# EAGLE library part CONNECTOR-10--PINS-11-TO-20 (library eagle-library-engr-245-s22)
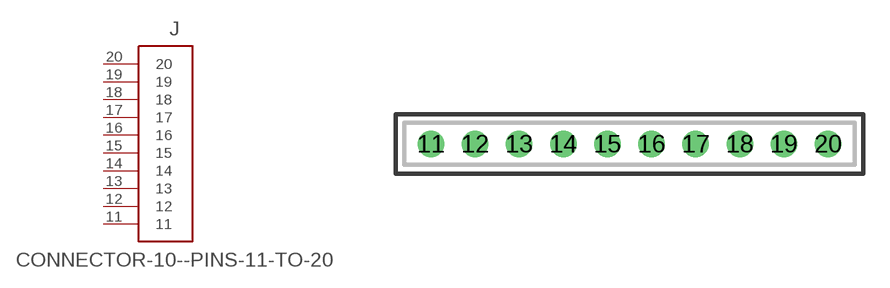
[diagram p17: symbol with the pads of ESQ-110-XX-XX-S--ROUND-PIN-1; footprint ESQ-110-XX-XX-S--ROUND-PIN-1]

Designator prefix J

## CONNECTOR-10--PINS-11-TO-20  [ESQ-110-XX-XX-S--ROUND-PIN-1]
11  11
12  12
13  13
14  14
15  15
16  16
17  17
18  18
19  19
20  20

## Footprint ESQ-110-XX-XX-S--ROUND-PIN-1 (pad centres in mm)
drill 1.016 pad 1.524: 11 -11.43,0; 12 -8.89,0; 13 -6.35,0; 14 -3.81,0; 15 -1.27,0; 16 1.27,0; 17 3.81,0; 18 6.35,0; 19 8.89,0; 20 11.43,0